# Altium footprint library Connector.PcbLib: 23 footprints (part 1 of 2)
Each footprint in its own frame and in the unit in brackets; x right, y up, seen from the top. Pads: shape width x height; smd on the part's side, far side on the other; paste and mask are expansions set on the pad; w line width, h text height; cw(c..) or ccw(c..) is an arc to the next point about the centre after c.
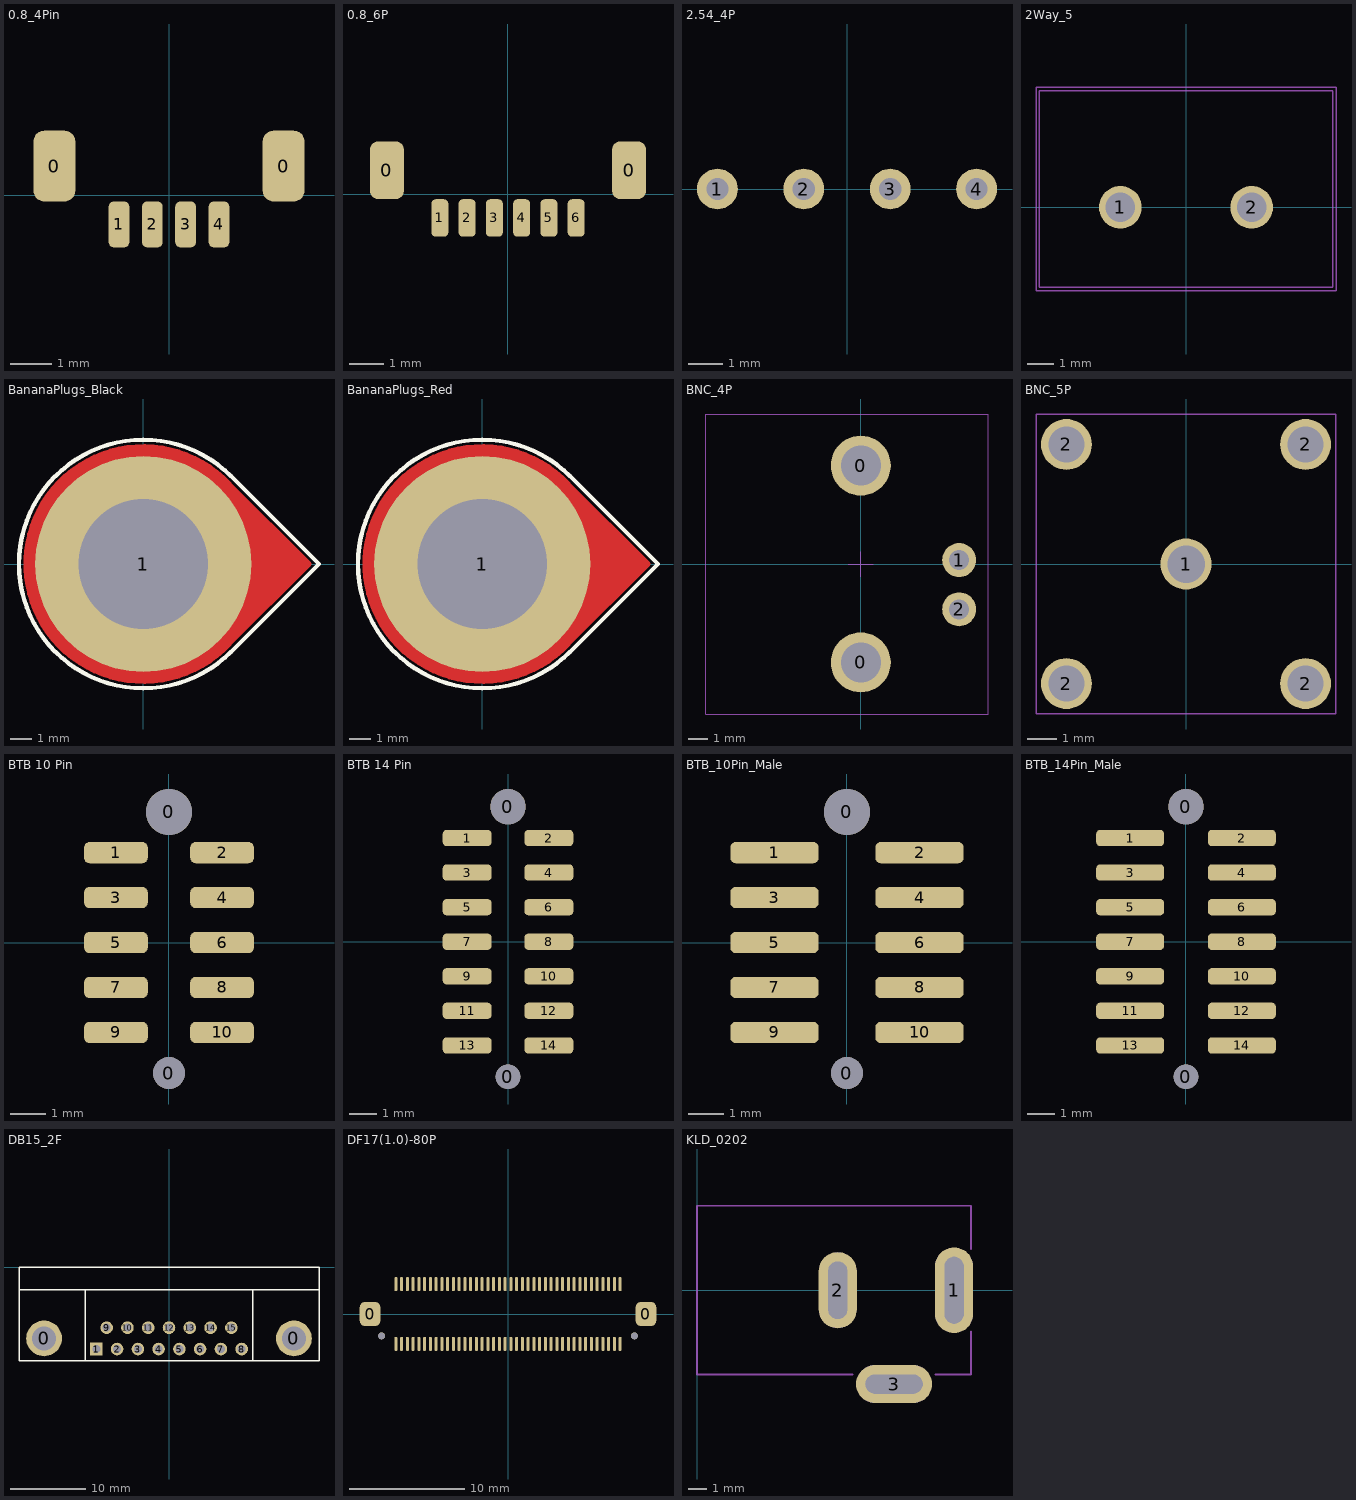
[diagram p0: the footprints below, top view; thin cyan lines are the x and y axes]

## 0.8_4Pin [mm]
pads (6):
  rrect50% 1x1.7 smd: 0(-2.75,0.7) 0(2.75,0.7)
  rrect50% 0.5x1.1 smd: 1(-1.2,-0.7) 2(-0.4,-0.7) 3(0.4,-0.7) 4(1.2,-0.7)
3D body "df52-4s-0_8h_21_.stp": height 1.65, standoff -0.1, extent -2.7,-1.17 2.7,1.6

## 0.8_6P [mm]
pads (8):
  rrect50% 1x1.7 smd: 0(-3.55,0.7) 0(3.55,0.7)
  rrect50% 0.5x1.1 smd: 1(-2,-0.7) 2(-1.2,-0.7) 3(-0.4,-0.7) 4(0.4,-0.7) 5(1.2,-0.7) 6(2,-0.7)
3D body "df52-6s-0_8h_21_.stp": height 1.65, standoff -0.1, extent -3.481,-1.149 3.519,1.621

## 2.54_4P [mm]
pads (4):
  round 1.2 hole 0.65: 1(-3.81,0) 2(-1.27,0) 3(1.27,0) 4(3.81,0)
3D body "85930.stp": height 8.6, standoff -2.9, extent -4.854,-1.181 4.906,1.229

## 2Way_5 [mil]
height 501.97
pads (2):
  round 64 hole 44: 1(-98.43,0) 2(98.43,0)
Mechanical 13:
  lines w2: -220,-120 -220,175 220,175 220,-120 -220,-120
T-Component:
  lines w2: -225,-125 225,-125 225,180 -225,180 -225,-125
  text ".Designator" at -90,10 h100
3D body "38261.stp": height 590.55, standoff -137.8, extent -224.65,-185 197.8,189.02

## BananaPlugs_Black [mil]
pads (1):
  round 400 hole 240: 1(0,0)
Top Layer:
  region: 158.64,-146.59 148.87,-157.16 126.7,-175.53 102.29,-190.79 76.06,-202.68 48.5,-210.98 20.07,-215.55 -8.71,-216.3 -37.33,-213.24 -65.3,-206.4 -92.11,-195.9 -117.29,-181.95 -140.4,-164.78 -161.02,-144.69 -178.8,-122.04 -193.41,-97.23 -204.61,-70.71 -212.18,-42.93 -216,-14.4 -216,14.4 -212.18,42.93 -204.61,70.71 -193.41,97.23 -178.8,122.04 -161.02,144.69 -140.4,164.78 -117.29,181.95 -92.11,195.9 -65.3,206.4 -37.33,213.24 -8.71,216.3 20.07,215.55 48.5,210.98 76.06,202.68 102.29,190.79 126.7,175.53 148.87,157.16 158.64,146.59 159,146 305,0
  lines w12: 158.64,-146.59 cw(c0,0) 158.64,146.59 ; 159,-146 305,0 159,146
Bottom Layer:
  region: 158.64,-146.59 148.87,-157.16 126.7,-175.53 102.29,-190.79 76.07,-202.68 48.5,-210.98 20.07,-215.55 -8.71,-216.3 -37.33,-213.24 -65.3,-206.4 -92.11,-195.9 -117.29,-181.95 -140.4,-164.78 -161.02,-144.69 -178.8,-122.04 -193.41,-97.23 -204.61,-70.71 -212.18,-42.93 -216,-14.4 -216,14.4 -212.18,42.93 -204.61,70.71 -193.41,97.23 -178.8,122.04 -161.02,144.69 -140.4,164.78 -117.29,181.95 -92.11,195.9 -65.3,206.4 -37.33,213.24 -8.71,216.3 20.07,215.55 48.5,210.98 76.07,202.68 102.29,190.79 126.7,175.53 148.87,157.16 158.64,146.59 159,146 305,0
Top Overlay:
  lines w8: 162.63,-162.63 cw(c0,0) 162.63,162.63 325.27,0 162.63,-162.63
Bottom Overlay:
  lines w8: 162.63,-162.63 cw(c0,0) 162.63,162.63 325.27,0 162.63,-162.63
Top Solder:
  region: 158.64,-146.59 148.87,-157.16 126.7,-175.53 102.29,-190.79 76.07,-202.68 48.5,-210.98 20.07,-215.55 -8.71,-216.3 -37.33,-213.24 -65.3,-206.4 -92.11,-195.9 -117.29,-181.95 -140.4,-164.78 -161.02,-144.69 -178.8,-122.04 -193.41,-97.23 -204.61,-70.71 -212.18,-42.93 -216,-14.4 -216,14.4 -212.18,42.93 -204.61,70.71 -193.41,97.23 -178.8,122.04 -161.02,144.69 -140.4,164.78 -117.29,181.95 -92.11,195.9 -65.3,206.4 -37.33,213.24 -8.71,216.3 20.07,215.55 48.5,210.98 76.07,202.68 102.29,190.79 126.7,175.53 148.87,157.16 158.64,146.59 159,146 305,0
Bottom Solder:
  region: 158.64,-146.59 148.87,-157.16 126.7,-175.53 102.29,-190.79 76.07,-202.68 48.5,-210.98 20.07,-215.55 -8.71,-216.3 -37.33,-213.24 -65.3,-206.4 -92.11,-195.9 -117.29,-181.95 -140.4,-164.78 -161.02,-144.69 -178.8,-122.04 -193.41,-97.23 -204.61,-70.71 -212.18,-42.93 -216,-14.4 -216,14.4 -212.18,42.93 -204.61,70.71 -193.41,97.23 -178.8,122.04 -161.02,144.69 -140.4,164.78 -117.29,181.95 -92.11,195.9 -65.3,206.4 -37.33,213.24 -8.71,216.3 20.07,215.55 48.5,210.98 76.07,202.68 102.29,190.79 126.7,175.53 148.87,157.16 158.64,146.59 159,146 305,0
3D body "User Library-ST-351B V1 - BLACK.STEP": height 326.77, standoff -303.18, extent -222.44,-222.19 456.69,222.19

## BananaPlugs_Red [mil]
pads (1):
  round 400 hole 240: 1(0,0)
Top Layer:
  region: 158.64,-146.59 148.87,-157.16 126.7,-175.53 102.29,-190.79 76.06,-202.68 48.5,-210.98 20.07,-215.55 -8.71,-216.3 -37.33,-213.24 -65.3,-206.4 -92.11,-195.9 -117.29,-181.95 -140.4,-164.78 -161.02,-144.69 -178.8,-122.04 -193.41,-97.23 -204.61,-70.71 -212.18,-42.93 -216,-14.4 -216,14.4 -212.18,42.93 -204.61,70.71 -193.41,97.23 -178.8,122.04 -161.02,144.69 -140.4,164.78 -117.29,181.95 -92.11,195.9 -65.3,206.4 -37.33,213.24 -8.71,216.3 20.07,215.55 48.5,210.98 76.06,202.68 102.29,190.79 126.7,175.53 148.87,157.16 158.64,146.59 159,146 305,0
  lines w12: 158.64,-146.59 cw(c0,0) 158.64,146.59 ; 159,-146 305,0 159,146
Bottom Layer:
  region: 158.64,-146.59 148.87,-157.16 126.7,-175.53 102.29,-190.79 76.07,-202.68 48.5,-210.98 20.07,-215.55 -8.71,-216.3 -37.33,-213.24 -65.3,-206.4 -92.11,-195.9 -117.29,-181.95 -140.4,-164.78 -161.02,-144.69 -178.8,-122.04 -193.41,-97.23 -204.61,-70.71 -212.18,-42.93 -216,-14.4 -216,14.4 -212.18,42.93 -204.61,70.71 -193.41,97.23 -178.8,122.04 -161.02,144.69 -140.4,164.78 -117.29,181.95 -92.11,195.9 -65.3,206.4 -37.33,213.24 -8.71,216.3 20.07,215.55 48.5,210.98 76.07,202.68 102.29,190.79 126.7,175.53 148.87,157.16 158.64,146.59 159,146 305,0
Top Overlay:
  lines w8: 162.63,-162.63 cw(c0,0) 162.63,162.63 325.27,0 162.63,-162.63
Bottom Overlay:
  lines w8: 162.63,-162.63 cw(c0,0) 162.63,162.63 325.27,0 162.63,-162.63
Top Solder:
  region: 158.64,-146.59 148.87,-157.16 126.7,-175.53 102.29,-190.79 76.07,-202.68 48.5,-210.98 20.07,-215.55 -8.71,-216.3 -37.33,-213.24 -65.3,-206.4 -92.11,-195.9 -117.29,-181.95 -140.4,-164.78 -161.02,-144.69 -178.8,-122.04 -193.41,-97.23 -204.61,-70.71 -212.18,-42.93 -216,-14.4 -216,14.4 -212.18,42.93 -204.61,70.71 -193.41,97.23 -178.8,122.04 -161.02,144.69 -140.4,164.78 -117.29,181.95 -92.11,195.9 -65.3,206.4 -37.33,213.24 -8.71,216.3 20.07,215.55 48.5,210.98 76.07,202.68 102.29,190.79 126.7,175.53 148.87,157.16 158.64,146.59 159,146 305,0
Bottom Solder:
  region: 158.64,-146.59 148.87,-157.16 126.7,-175.53 102.29,-190.79 76.07,-202.68 48.5,-210.98 20.07,-215.55 -8.71,-216.3 -37.33,-213.24 -65.3,-206.4 -92.11,-195.9 -117.29,-181.95 -140.4,-164.78 -161.02,-144.69 -178.8,-122.04 -193.41,-97.23 -204.61,-70.71 -212.18,-42.93 -216,-14.4 -216,14.4 -212.18,42.93 -204.61,70.71 -193.41,97.23 -178.8,122.04 -161.02,144.69 -140.4,164.78 -117.29,181.95 -92.11,195.9 -65.3,206.4 -37.33,213.24 -8.71,216.3 20.07,215.55 48.5,210.98 76.07,202.68 102.29,190.79 126.7,175.53 148.87,157.16 158.64,146.59 159,146 305,0
3D body "User Library-ST-351A V1 - RED.STEP": height 326.77, standoff -303.18, extent -222.45,-222.2 456.69,222.18

## BNC_4P [mil]
pads (4):
  round 120 hole 80: 0(0,-196.85) 0(0,196.85)
  round 68 hole 40: 1(196.85,7.87) 2(196.85,-90.55)
Mechanical 13:
  lines w2: -25,0 25,0 ; 0,-25 0,25
T-Component:
  lines w2: -310,-300 -310,300 255,300 255,-300 -310,-300
3D body "User Library-BNC-144.STEP": height 519.2, standoff -161.8, extent -1124.99,-290.5 250.01,290.5

## BNC_5P [mil]
pads (5):
  round 68 hole 50: 1(0,0)
  round 68 hole 48: 2(-159.45,-159.45) 2(-159.45,159.45) 2(159.45,-159.45) 2(159.45,159.45)
T-Component:
  lines w2: -200,-200 200,-200 200,200 -200,200 -200,-200
3D body "User Library-BNC84CT-9000.STEP": height 600.39, standoff -177.17, extent -216.53,-216.53 1043.31,216.54

## BTB 10 Pin [mm]
pads (12):
  round 0.9 hole 0.9: 0(0,-3.69)
  round 1.3 hole 1.3: 0(0,3.69)
  rrect50% 1.8x0.6 smd: 1(-1.5,2.54) 2(1.5,2.54) 3(-1.5,1.27) 4(1.5,1.27) 5(-1.5,0) 6(1.5,0) 7(-1.5,-1.27) 8(1.5,-1.27) 9(-1.5,-2.54) 10(1.5,-2.54)
3D body "2002132300010t1lf.stp": height 2.1, standoff -0.05, extent -2.215,-3.405 2.235,3.405

## BTB 14 Pin [mm]
pads (16):
  round 0.9 hole 0.9: 0(0,-4.96)
  round 1.3 hole 1.3: 0(0,4.96)
  rrect50% 1.8x0.6 smd: 1(-1.5,3.81) 2(1.5,3.81) 3(-1.5,2.54) 4(1.5,2.54) 5(-1.5,1.27) 6(1.5,1.27) 7(-1.5,0) 8(1.5,0) 9(-1.5,-1.27) 10(1.5,-1.27) 11(-1.5,-2.54) 12(1.5,-2.54) 13(-1.5,-3.81) 14(1.5,-3.81)
3D body "2002132300014d4lf.stp": height 2.11, standoff -0.04, extent -2.215,-4.675 2.235,4.675

## BTB_10Pin_Male [mm]
pads (12):
  round 0.9 hole 0.9: 0(0,-3.69)
  round 1.3 hole 1.3: 0(0,3.69)
  rrect50% 2.5x0.6 smd: 1(-2.05,2.54) 2(2.05,2.54) 3(-2.05,1.27) 4(2.05,1.27) 5(-2.05,0) 6(2.05,0) 7(-2.05,-1.27) 8(2.05,-1.27) 9(-2.05,-2.54) 10(2.05,-2.54)
3D body "70473736.stp": height 5.6, standoff 0, extent -2.75,-4.67 2.75,4.67

## BTB_14Pin_Male [mm]
pads (16):
  round 0.9 hole 0.9: 0(0,-4.96)
  round 1.3 hole 1.3: 0(0,4.96)
  rrect50% 2.5x0.6 smd: 1(-2.05,3.81) 2(2.05,3.81) 3(-2.05,2.54) 4(2.05,2.54) 5(-2.05,1.27) 6(2.05,1.27) 7(-2.05,0) 8(2.05,0) 9(-2.05,-1.27) 10(2.05,-1.27) 11(-2.05,-2.54) 12(2.05,-2.54) 13(-2.05,-3.81) 14(2.05,-3.81)
3D body "2002122100014d8lf.stp": height 5.6, standoff 0, extent -2.75,-5.94 2.75,5.94

## DB15_2F [mil]
height 501.97
pads (17):
  round 188 hole 125: 0(-655.91,-374.02) 0(655.91,-374.02)
  rect 66x66 hole 42: 1(-381.69,-429.92)
  round 66 hole 42: 2(-272.64,-429.92) 3(-163.58,-429.92) 4(-54.53,-429.92) 5(54.53,-429.92) 6(163.58,-429.92) 7(272.64,-429.92) 8(381.69,-429.92) 9(-327.17,-318.11) 10(-218.11,-318.11) 11(-109.05,-318.11) 12(0,-318.11) 13(109.06,-318.11) 14(218.11,-318.11) 15(327.17,-318.11)
Top Overlay:
  lines w7.87: -787.4,-118.11 787.4,-118.11 ; -438.58,-492.13 -438.58,-118.11 ; 438.58,-492.13 438.58,-118.11 ; -787.4,-492.13 -787.4,0 787.4,0 787.4,-492.13 -787.4,-492.13
3D body "SW3DPS-DB15RA_F-DEFAULT.STEP": height 494.09, standoff -137.8, extent -779.92,-500 779.92,224.41

## DB15_3F [mm]
height 12.75
3D body "SW3dPS-SLIM D-SUB RIGHT ANGLE PCB MOUNT.STEP": height 6.25, standoff -7.09, extent 25.113,-52.612 55.913,-39.142
3D body "User Library-17EBH-015P.STEP": height 12.55, standoff -3.6, extent -9.817,-56.225 20.993,-34.01

## DF17(1.0)-80P [mm]
pads (84):
  rrect50% 1.8x2.1 smd: 0(-12,0) 0(12,0)
  round 0.6 hole 0.6: 0(-11,-1.9) 0(11,-1.9)
  rrect50% 0.25x1.2 smd: 1(-9.75,2.6) 2(-9.25,2.6) 3(-8.75,2.6) 4(-8.25,2.6) 5(-7.75,2.6) 6(-7.25,2.6) 7(-6.75,2.6) 8(-6.25,2.6) 9(-5.75,2.6) 10(-5.25,2.6) 11(-4.75,2.6) 12(-4.25,2.6) 13(-3.75,2.6) 14(-3.25,2.6) 15(-2.75,2.6) 16(-2.25,2.6) 17(-1.75,2.6) 18(-1.25,2.6) 19(-0.75,2.6) 20(-0.25,2.6) 21(0.25,2.6) 22(0.75,2.6) 23(1.25,2.6) 24(1.75,2.6) 25(2.25,2.6) 26(2.75,2.6) 27(3.25,2.6) 28(3.75,2.6) 29(4.25,2.6) 30(4.75,2.6) 31(5.25,2.6) 32(5.75,2.6) 33(6.25,2.6) 34(6.75,2.6) 35(7.25,2.6) 36(7.75,2.6) 37(8.25,2.6) 38(8.75,2.6) 39(9.25,2.6) 40(9.75,2.6) 41(9.75,-2.6) 42(9.25,-2.6) 43(8.75,-2.6) 44(8.25,-2.6) 45(7.75,-2.6) 46(7.25,-2.6) 47(6.75,-2.6) 48(6.25,-2.6) 49(5.75,-2.6) 50(5.25,-2.6) 51(4.75,-2.6) 52(4.25,-2.6) 53(3.75,-2.6) 54(3.25,-2.6) 55(2.75,-2.6) 56(2.25,-2.6) 57(1.75,-2.6) 58(1.25,-2.6) 59(0.75,-2.6) 60(0.25,-2.6) 61(-0.25,-2.6) 62(-0.75,-2.6) 63(-1.25,-2.6) 64(-1.75,-2.6) 65(-2.25,-2.6) 66(-2.75,-2.6) 67(-3.25,-2.6) 68(-3.75,-2.6) 69(-4.25,-2.6) 70(-4.75,-2.6) 71(-5.25,-2.6) 72(-5.75,-2.6) 73(-6.25,-2.6) 74(-6.75,-2.6) 75(-7.25,-2.6) 76(-7.75,-2.6) 77(-8.25,-2.6) 78(-8.75,-2.6) 79(-9.25,-2.6) 80(-9.75,-2.6)
3D body "131706.stp": height 3.5, standoff -0.6, extent -12.5,-2.85 12.5,2.85

## KLD_0202 [mil]
pads (3):
  oval 80x180 hole 40 slot 140 at 90 deg: 1(539.37,0)
  oval 80x160 hole 40 slot 120 at 90 deg: 2(295.28,0)
  oval 160x80 hole 40 slot 120 at 0 deg: 3(413.39,-196.85)
Mechanical 2:
  lines w79.37: 295.28,-39.37 295.28,39.37 ; 374.02,-196.85 452.76,-196.85 ; 539.37,-49.21 539.37,49.21
Mechanical 13:
  lines w4: 326.77,-177.17 0,-177.17 0,177.17 574.8,177.17 574.8,86.61 ; 500,-177.17 574.8,-177.17 574.8,-86.61
3D body "User Library-K375A -PCM DC Power Jack 2mm Pin.STEP": height 433.07, standoff -200.79, extent -9.25,-212.75 561.62,173.07